# EAGLE library part S7379-01 (library diode)
Si PIN Quadrant photodiode Source: http://sales.hamamatsu.com/assets/pdf/parts_S/S7379-01_etc.pdf
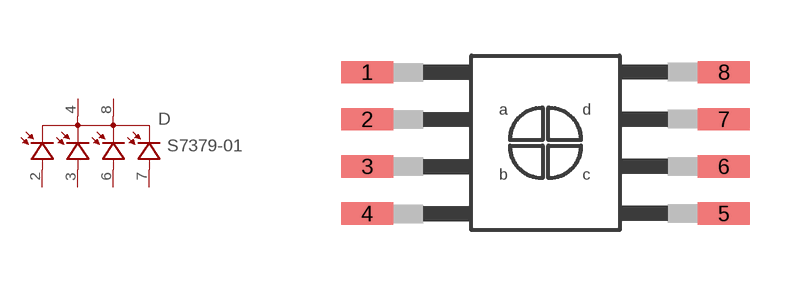
[diagram p9: symbol with the pads of S7379-01; footprint S7379-01]

Designator prefix D

## S7379-01  [S7379-01]
2  AA  pas
3  AB  pas
4  C1  pas
6  AC  pas
7  AD  pas
8  C2  pas

## Footprint S7379-01 (pad centres in mm)
Si PIN Quadrant photodiode Source: http://sales.hamamatsu.com/assets/pdf/parts_S/S7379-01_etc.pdf
smd 1.4 x 0.6: 1 -4.805,1.905; 2 -4.805,0.635; 3 -4.805,-0.635; 4 -4.805,-1.905; 5 4.805,-1.905; 6 4.805,-0.635; 7 4.805,0.635; 8 4.805,1.905